# Altium integrated library pca10090.IntLib: 80 symbols (part 2 of 2)
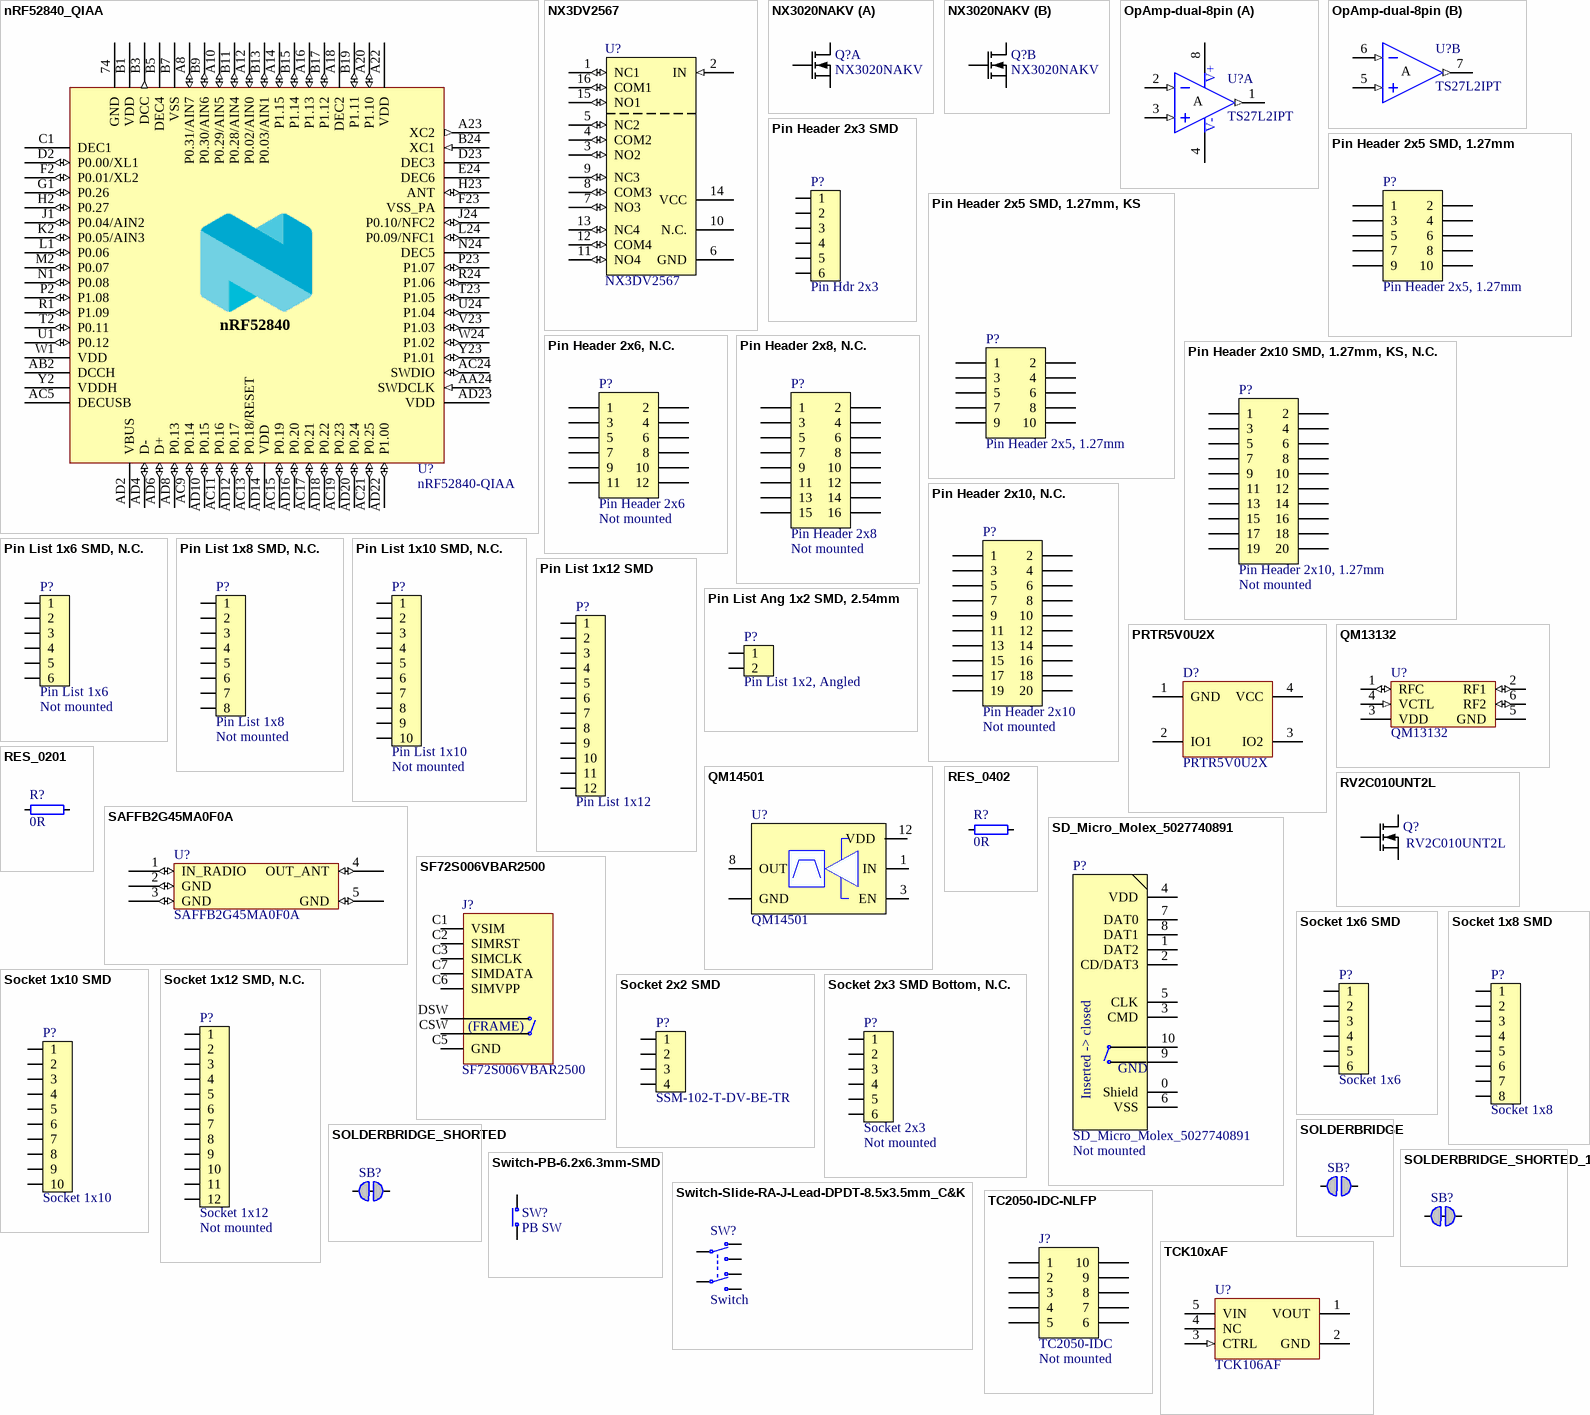
[diagram p4: symbols nRF52840_QIAA to TCK10xAF]

## Socket 1x8 SMD
designator P?, comment Socket 1x8
Socket 1x8, 2.54mm (100mil), SMD; Part Number: Socket 1x8 SMD; Manufacturer: W-CON; Manufacturer Part Number: 2171-108MS0CUNR1; Part number IPS: 00000009963; Artikkelnr Noca: 55030002; Footprint Doc: SOCKET_1x8_SMD; LatestRevisionDate: 2017-10-23; Pin Count: 8; Publisher: Nordic Semiconductor; Published: 2016-01-22; Value: Socket 1x8; Note: *; ComponentLink1URL: *; ComponentLink1Description: Datasheet; ComponentLink2URL: *; ComponentLink2Description: Supplier link; HelpURL: *; Supplier 1: Cabcon; Supplier Part Number 1: 2171-108MS0CUNR1; Supplier 2: Samtec; Supplier Part Number 2: SSM-108-F-SV-P-TR
footprint SOCKET_1x8_SMD
pins: 1, 2, 3, 4, 5, 6, 7, 8

## Socket 1x10 SMD
designator P?, comment Socket 1x10
Socket 1x10, 2.54mm (100mil), SMD; Part Number: Socket 1x10 SMD; Manufacturer: W-CON; Manufacturer Part Number: 2171-110MS0CUNR1; Part number IPS: 00000009965; Artikkelnr Noca: 55030004; Footprint Doc: SOCKET_1x10_SMD; LatestRevisionDate: 2016-01-22; Pin Count: 10; Publisher: Nordic Semiconductor; Published: 2016-01-22; Value: Socket 1x10; Note: *; ComponentLink1URL: *; ComponentLink1Description: Datasheet; ComponentLink2URL: *; ComponentLink2Description: Supplier link; HelpURL: *; Supplier 1: Cabcon; Supplier Part Number 1: 2171-110MS0CUNR1; Supplier 2: Samtec; Supplier Part Number 2: SSM-110-F-SV-P-TR
footprint SOCKET_1x10_SMD
pins: 1, 2, 3, 4, 5, 6, 7, 8, 9, 10

## Socket 1x12 SMD, N.C.
designator P?, comment Socket 1x12  Assembly: Not mounted
Socket 1x12, 2.54mm (100mil), SMD; Part Number: Socket 1x12 SMD, N.C.; Manufacturer: W-CON; Manufacturer Part Number: 2171-112MS0CUNR1; Artikkelnr Noca: N.A.; Footprint Doc: SOCKET_1x12_SMD; LatestRevisionDate: 2017-10-23; Pin Count: 12; Publisher: Nordic Semiconductor; Published: 2017-09-07; Value: Socket 1x12; Note: *; Part number IPS: N.A.; ComponentLink1URL: *; ComponentLink1Description: Datasheet; ComponentLink2URL: *; ComponentLink2Description: Supplier link; HelpURL: *; Supplier 1: Cabcon; Supplier Part Number 1: 2171-112MS0CUNR1; Supplier 2: Samtec; Supplier Part Number 2: SSM-112-L-SV-P-TR
footprint LIST_1x12_SMD-NC
pins: 1, 2, 3, 4, 5, 6, 7, 8, 9, 10, 11, 12

## Socket 2x2 SMD
designator P?, comment SSM-102-T-DV-BE-TR
.025 SOCKET STRIPS; Part Number: 2171-202MSNCUNR1; Manufacturer: WCON; Part number IPS: 00000001417; Artikkelnr Noca: N.A.; Manufacturer Part Number: 2171-202MSNCUNR1; ComponentLink1URL: https://www.samtec.com/partnumber/ssm-102-t-dv-be-tr?vendor=digikey; ComponentLink1Description: Datasheet; ComponentLink2URL: *; ComponentLink2Description: Supplier link; HelpURL: *; Footprint Doc: SSM-102-T-DV-BE-TR; LatestRevisionDate: 2018-06-07; Pin Count: 4; Publisher: Nordic Semiconductor; Published: 2018-06-07; Value: SSM-102-T-DV-BE-TR; Note: *; Supplier 1: Cabcon; Supplier Part Number 1: 2171-202MSNCUNR1; Supplier 2: Digi-Key; Supplier Part Number 2: SSM-102-T-DV-BE-TR-ND
footprint SSM-102-T-DV-BE-TR
pins: 1, 2, 3, 4

## Socket 2x3 SMD Bottom, N.C.
designator P?, comment Socket 2x3  Assembly: Not mounted
Socket 2x3, 2.54mm (100mil), SMD; Part Number: Socket 2x3 SMD Bottom, N.C.; Manufacturer: W-CON; Manufacturer Part Number: 2171-203MS0CUNR1; Part number IPS: N.A.; Artikkelnr Noca: 55030010; LatestRevisionDate: 2016-03-29; Pin Count: 6; Publisher: Nordic Semiconductor; Published: 2014-06-10; Value: Socket 2x3; Note: *; Footprint Doc: SOCKET_2x3_SMD-2.54mm-bottom; ComponentLink1URL: *; ComponentLink1Description: Datasheet; ComponentLink2URL: *; ComponentLink2Description: Supplier link; HelpURL: \\hizz\pro\app9717\Datasheet\connectores\W-CON\2171-2XXMXXCUNXX.pdf; Supplier 1: Cabcon; Supplier Part Number 1: 2171-203MS0CUNR1; Supplier 2: Samtec; Supplier Part Number 2: SSM-103-F-DV-P-TR
footprint SOCKET_2x3_SMD-2.54mm-bottom-NC
pins: 1, 2, 3, 4, 5, 6

## SOLDERBRIDGE
designator SB?, comment Solderbridge  (value not drawn)  (no BOM)
Artikkelnr Noca: N.A.; Part Number: Solderbridge; Manufacturer: *; Manufacturer Part Number: *; ComponentLink1URL: *; ComponentLink1Description: Datasheet; ComponentLink2URL: *; ComponentLink2Description: Supplier link; HelpURL: *; Footprint Doc: Solderbridge; LatestRevisionDate: 2009-12-14; Pin Count: 2; Publisher: Nordic Semiconductor; Published: 2009-12-14; Value: Solderbridge; Note: *; Supplier 1: *; Supplier Part Number 1: *; Supplier 2: *; Supplier Part Number 2: *; Part number IPS: N.A.
footprint Solderbridge
pins: 1 0, 2 1

## SOLDERBRIDGE_SHORTED
designator SB?, comment Solderbridge  (value not drawn)  (net tie, no BOM)
Shorted Solderbridge; Part Number: Solderbridge Shorted; Artikkelnr Noca: N.A.; Manufacturer: *; Manufacturer Part Number: *; LatestRevisionDate: 2012-08-07; Pin Count: 2; Publisher: Nordic Semiconductor; Published: 2012-08-07; Value: Solderbridge; Note: *; Footprint Doc: Solderbridge_Shorted; Part number IPS: N.A.; ComponentLink1URL: *; ComponentLink1Description: Datasheet; ComponentLink2URL: *; ComponentLink2Description: Supplier link; HelpURL: *; Supplier 1: *; Supplier Part Number 1: *; Supplier 2: *; Supplier Part Number 2: *
footprint Solderbridge_Shorted
pins: 1 0, 2 1

## SOLDERBRIDGE_SHORTED_1
designator SB?, comment Solderbridge  (value not drawn)  (net tie, no BOM)
Shorted Solderbridge Power; Part Number: Solderbridge Shorted Power; Artikkelnr Noca: N.A.; Manufacturer: *; Manufacturer Part Number: *; LatestRevisionDate: 2012-08-07; Pin Count: 2; Publisher: Nordic Semiconductor; Published: 2012-08-07; Value: Solderbridge; Note: *; Footprint Doc: Solderbridge_Shorted_Power; Part number IPS: N.A.; ComponentLink1URL: *; ComponentLink1Description: Datasheet; ComponentLink2URL: *; ComponentLink2Description: Supplier link; HelpURL: *; Supplier 1: *; Supplier Part Number 1: *; Supplier 2: *; Supplier Part Number 2: *
footprint Solderbridge_Shorted_Power
pins: 1 0, 2 1

## Switch-PB-6.2x6.3mm-SMD
designator SW?, comment PB SW
Tactile Switch, SPNO, SMD, 160gf, 6.2x6.3x2.5mm; Part Number: Switch-PB-6.2x6.3mm-SMD; Manufacturer: Dailywell; Manufacturer Part Number: TS604VM1-025BR-R; Part number IPS: 00000007812; Artikkelnr Noca: 50019106; Footprint Doc: Switch-PB-6.2x6.3mm-SMD; LatestRevisionDate: 2016-04-21; Pin Count: 4; Publisher: Nordic Semiconductor; Published: 2010-02-01; Value: PB SW; Note: *; ComponentLink1URL: *; ComponentLink1Description: Datasheet; ComponentLink2URL: *; ComponentLink2Description: Supplier link; HelpURL: \\hizz\pro\app9717\Datasheet\switches\Dailywell\TS604VM1-025BR-R.pdf; Supplier 1: Cabcon; Supplier Part Number 1: TS604VM1-025BR-R; Supplier 2: Mouser; Supplier Part Number 2: 688-SKHUALE010
footprint Switch-PB-6.2x6.3mm-SMD
pins: 1 N.O, 2 COM

## Switch-Slide-RA-J-Lead-DPDT-8.5x3.5mm_C&K
designator SW?, comment Switch
SMD slide Switch (ON-ON); Part Number: Switch-Slide-RA-J-Lead-DPDT-8.5x3.5mm_C&K; Manufacturer: C&K Components; Manufacturer Part Number: JS202011JAQN; Part number IPS: 00000007811; Artikkelnr Noca: N.A.; Footprint Doc: Switch-Slide-RA-J-Lead-DPDT-8.5x3.5mm; LatestRevisionDate: 2017-02-01; Pin Count: 6; Publisher: Nordic Semiconductor; Published: 2016-09-15; Value: Switch; Note: *; ComponentLink1URL: *; ComponentLink1Description: Datasheet; ComponentLink2URL: *; ComponentLink2Description: Supplier link; HelpURL: http://www.ck-components.com/media/1422/js.pdf; Supplier 1: Digi-Key; Supplier Part Number 1: CKN10722CT-ND; Supplier 2: Mouser; Supplier Part Number 2: 611-JS202011JAQN
footprint JS102011JAQN
pins: 1 N.O-1, 2 COM-1, 3 N.C-1, 4 N.O-2, 5 COM-2, 6 N.C-2

## TC2050-IDC-NLFP
designator J?, comment TC2050-IDC  Assembly: Not mounted  (no BOM)
CBL PLUG-OF-NAILS 10-PIN; Part Number: TC2050-IDC-NLFP; Manufacturer: Tag-Connect LLC; Artikkelnr Noca: N.A.; Manufacturer Part Number: TC2050-IDC-NLFP; LatestRevisionDate: 2012-11-21; Publisher: Nordic Semiconductor; Published: 2012-11-21; Value: TC2050-IDC; Pin Count: 10; Footprint Doc: TC2050-IDC-NLFP; Part number IPS: N.A.; ComponentLink1URL: *; ComponentLink1Description: Datasheet; ComponentLink2URL: *; ComponentLink2Description: Supplier link; HelpURL: http://www.tag-connect.com/Materials/TC2050-IDC%20Datasheet.pdf; Supplier 1: Digi-Key; Supplier Part Number 1: TC2050-IDC-NL-ND; Supplier 2: *; Supplier Part Number 2: *
footprint TC2050-IDC-NLFP
pins: 1, 2, 3, 4, 5, 6, 7, 8, 9, 10

## TCK10xAF
designator U?, comment TCK106AF
1.0 A Load Switch IC with Slew Rate Control Driver in Small Package; Part Number: TCK106AF,LF; Manufacturer: Toshiba; Part number IPS: 00000007823; Artikkelnr Noca: 15070086; Manufacturer Part Number: TCK106AF,LF; ComponentLink1URL: *; ComponentLink1Description: Datasheet; ComponentLink2URL: *; ComponentLink2Description: Supplier link; HelpURL: https://toshiba.semicon-storage.com/info/docget.jsp?did=53240&prodName=TCK108AF; Footprint Doc: SOT-25; LatestRevisionDate: 2016-09-29; Pin Count: 5; Publisher: Nordic Semiconductor; Published: 2016-09-29; Value: TCK106AF; Note: *; Supplier 1: Digi-Key; Supplier Part Number 1: TCK106AFLFCT-ND; Supplier 2: *; Supplier Part Number 2: *
footprint SOT95P280X140-5N
pins: 1 VOUT (power), 2 GND (power), 3 CTRL (in), 4 NC, 5 VIN (power)

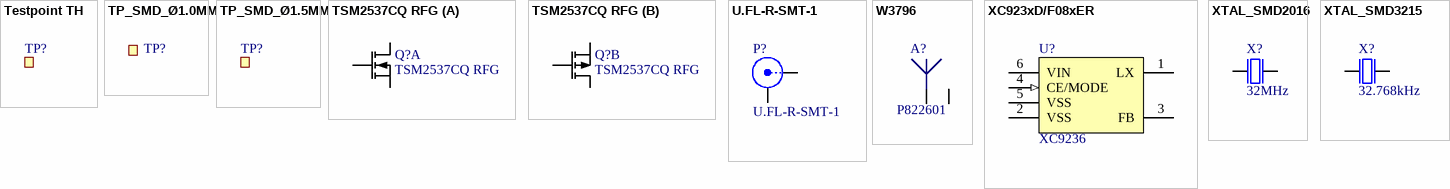
[diagram p3: symbols Testpoint TH to XTAL_SMD3215]

## Testpoint TH
designator TP?, comment TP  (value not drawn)  (no BOM)
Testpoint, through hole; Part Number: Testpoint TH; Artikkelnr Noca: N.A.; Manufacturer: *; Manufacturer Part Number: *; Footprint Doc: TESTPAD-TH; LatestRevisionDate: 2009-12-12; Pin Count: 1; Publisher: Nordic Semiconductor; Published: 2009-12-12; Value: TP; Note: *; Part number IPS: N.A.; ComponentLink1URL: *; ComponentLink1Description: Datasheet; ComponentLink2URL: *; ComponentLink2Description: Supplier link; HelpURL: *; Supplier 1: *; Supplier Part Number 1: *; Supplier 2: *; Supplier Part Number 2: *
footprint TESTPAD-TH
pins: 1

## TP_SMD_Ø1.0MM
designator TP?, comment Ø1.0mm,SMD  (value not drawn)  (no BOM)
1.0mm circular SMD testpad; Part Number: TP_SMD_Ø1.0MM; Manufacturer: Nordic Semiconductor; Artikkelnr Noca: N.A.; Manufacturer Part Number: *; ComponentLink1URL: *; ComponentLink1Description: Datasheet; ComponentLink2URL: *; ComponentLink2Description: Supplier link; HelpURL: *; Footprint Doc: TP_SMD_Ø1.0mm; LatestRevisionDate: 2013-06-11; Pin Count: 1; Publisher: Nordic Semiconductor; Published: 2013-06-11; Value: Ø1.0mm,SMD; Note: *; Part number IPS: N.A.; Supplier 1: *; Supplier Part Number 1: *; Supplier 2: *; Supplier Part Number 2: *
footprint TP_SMD_Ø1.0mm
pins: 1

## TP_SMD_Ø1.5MM
designator TP?, comment Ø1.5mm,SMD  (value not drawn)  (no BOM)
1.5mm circular SMD testpad; Part Number: TP_SMD_Ø1.5MM; Manufacturer: Nordic Semiconductor; Artikkelnr Noca: N.A.; Manufacturer Part Number: *; ComponentLink1URL: *; ComponentLink1Description: Datasheet; ComponentLink2URL: *; ComponentLink2Description: Supplier link; HelpURL: *; Footprint Doc: TP_SMD_Ø1.5mm; LatestRevisionDate: 2016-06-02; Pin Count: 1; Publisher: Nordic Semiconductor; Published: 2016-06-02; Value: Ø1.5mm,SMD; Note: *; Part number IPS: N.A.; Supplier 1: *; Supplier Part Number 1: *; Supplier 2: *; Supplier Part Number 2: *
footprint TP_SMD_Ø1.5mm
pins: 1

## TSM2537CQ RFG
designator Q?
Dual N & P Ch MOFET, 11.6A/9A, 90mOhm max, 6.25W; Manufacturer: Taiwan Semiconductor; Part number IPS: 00000001702; Artikkelnr Noca: N.A.; Part Number: TSM2537CQ RFG; Manufacturer Part Number: TSM2537CQ RFG; ComponentLink1URL: https://www.taiwansemi.com/products/datasheet/TSM2537CQ_A1610.pdf; ComponentLink1Description: Datasheet; ComponentLink2URL: *; ComponentLink2Description: Supplier link; HelpURL: https://www.taiwansemi.com/products/datasheet/TSM2537CQ_A1610.pdf; Footprint Doc: VDFN-6; LatestRevisionDate: 2018-10-29; Pin Count: 6; Publisher: Nordic Semiconductor; Published: 2018-10-29; Value: TSM2537CQ RFG; Note: *; Supplier 1: Digi-Key; Supplier Part Number 1: TSM2537CQRFGCT-ND; Supplier 2: *; Supplier Part Number 2: *
footprint DFN65P200X200X80_HS-6N
part A pins: 1 S1, 2 G1, 6 D1
part B pins: 3 D2, 4 S2, 5 G2

## U.FL-R-SMT-1
designator P?
Ultra Small Surface Mount Coaxial Connectors, 50 Ohm, SMD; Manufacturer: Hirose Electric Co Ltd; Part number IPS: 00000001687; Artikkelnr Noca: N.A.; Part Number: U.FL-R-SMT-1; Manufacturer Part Number: U.FL-R-SMT-1; ComponentLink1URL: https://media.digikey.com/pdf/Data%20Sheets/Hirose%20PDFs/UFL%20Series.pdf; ComponentLink1Description: Datasheet; ComponentLink2URL: *; ComponentLink2Description: Supplier link; HelpURL: *; Footprint Doc: COAXIAL RF U.FL-R-SMT-1; LatestRevisionDate: 2018-05-07; Pin Count: 3; Publisher: Nordic Semiconductor; Published: 2018-05-07; Value: U.FL-R-SMT-1; Note: *; Supplier 1: Digi-Key; Supplier Part Number 1: H11891DKR-ND; Supplier 2: *; Supplier Part Number 2: *
footprint COAXIAL RF U.FL-R-SMT-1
pins: 1 X, 2 Y

## W3796
designator A?, comment P822601
ANTENNA PRESTTA OCTABAND LTE; Manufacturer: Ethertronics; Part number IPS: 00000009001; Artikkelnr Noca: N.A.; Part Number: P822601; Manufacturer Part Number: P822601; Footprint Doc: P822601; LatestRevisionDate: 2017-07-28; Pin Count: 2; Publisher: Nordic Semiconductor; Published: 2017-07-28; Value: P822601; Note: *; ComponentLink1URL: *; ComponentLink1Description: Datasheet; ComponentLink2URL: *; ComponentLink2Description: Supplier link; HelpURL: http://www.ethertronics.com/wp-content/uploads/2016/11/Prestta-P822601-P822602-Standard-Cellular-Octa-Band-20160904.pdf; Supplier 1: moreelectronics.dk; Supplier Part Number 1: P822601; Supplier 2: Digikey; Supplier Part Number 2: 939-1057-1-ND
footprint P822601
pins: 1, 2

## XC923xD/F08xER
designator U?, comment XC9236
600mA Driver Transistor Built-In, Synchronous Step-Down DC/DC Converters; Part Number: XC9236F08CER-G; Manufacturer: Torex Semiconductor; Part number IPS: 00000009989; Artikkelnr Noca: N.A.; Manufacturer Part Number: XC9236F08CER-G; Footprint Doc: USP-6C; LatestRevisionDate: 2017-11-15; Pin Count: 6; Publisher: Nordic Semiconductor; Published: 2016-08-08; Value: XC9236; Note: *; ComponentLink1URL: *; ComponentLink1Description: Datasheet; ComponentLink2URL: *; ComponentLink2Description: Supplier link; HelpURL: http://www.torexsemi.com/products/dcdc_converters/data/XC9235~37.pdf; Supplier 1: Mouser; Supplier Part Number 1: 865-XC9236F08CER-G; Supplier 2: *; Supplier Part Number 2: *
footprint USP-6C
pins: 1 LX, 2 VSS (power), 3 FB (power), 4 CE/MODE (in), 5 VSS (power), 6 VIN (power), 7 VSS (power) hidden to GND

## XTAL_SMD2016
designator X?, comment 32MHz
XTAL SMD 2016, 32MHz, Cl=8pF, Tol: ±10ppm, Stab: ±15ppm; Part Number: XTAL_SMD2016_32MHz_8pF_Golledge; Manufacturer: Golledge; Manufacturer Part Number: MP06003; Part number IPS: 00000001431; Note: XTAL SMD 32.000MHz; Artikkelnr Noca: 22010050; LatestRevisionDate: 2016-11-02; Pin Count: 4; Publisher: Nordic Semiconductor; Published: 2016-11-02; Value: 32MHz; Footprint Doc: XTAL_2016; ComponentLink1URL: *; ComponentLink1Description: Datasheet; ComponentLink2URL: *; ComponentLink2Description: Supplier link; HelpURL: \\hizz\pro\app9717\Datasheet\crystals\Golledge\mp06003.pdf; Supplier 1: Link Nordic; Supplier Part Number 1: *; Supplier 2: *; Supplier Part Number 2: *
footprint BT-XTAL_2016
pins: 1 inp, 2 GND hidden to GND, 3 out, 4 GND hidden to GND

## XTAL_SMD3215
designator X?, comment 32.768kHz
XTAL SMD 3215, 32.768kHz, 9pF, ±20ppm; Part Number: XTAL_SMD3215_32.768kHz_9pF_NDK; Manufacturer: NDK; Manufacturer Part Number: NX3215SA-32.768K-STD-MUA-9; Part number IPS: 00000005419; Note: XTAL SMD 32.768kHz; Artikkelnr Noca: 22010049; LatestRevisionDate: 2017-10-23; Pin Count: 2; Publisher: Nordic Semiconductor; Published: 2017-10-23; Value: 32.768kHz; Footprint Doc: XTAL_3215; ComponentLink1URL: *; ComponentLink1Description: Datasheet; ComponentLink2URL: *; ComponentLink2Description: Supplier link; HelpURL: *; Supplier 1: *; Supplier Part Number 1: *; Supplier 2: *; Supplier Part Number 2: *
footprint XTAL_3215
pins: 1 inp, 2 out